# Altium footprint library SIP32510DT-T1-GE3.PcbLib: 3 footprints
Each footprint in its own frame and in the unit in brackets; x right, y up, seen from the top. Pads: shape width x height; smd on the part's side, far side on the other; paste and mask are expansions set on the pad; w line width, h text height; cw(c..) or ccw(c..) is an arc to the next point about the centre after c.
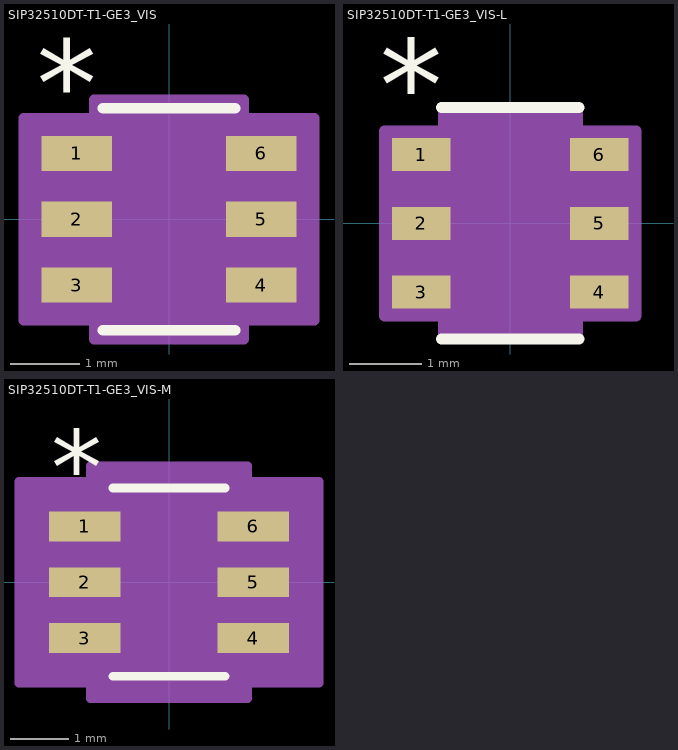
[diagram p0: the footprints below, top view; thin cyan lines are the x and y axes]

## SIP32510DT-T1-GE3_VIS [mil]
pads (6):
  rect 40x20 smd paste+0 mask+0: 1(-52.5,37.4) 2(-52.5,0) 3(-52.5,-37.4) 4(52.5,-37.4) 5(52.5,0) 6(52.5,37.4)
Top Overlay:
  lines w6: -37.5,-63 37.5,-63 ; -37.5,63 37.5,63
  text "*" at -75,52.4 h50
Mechanical 13:
  lines w0: -12,58 ccw(c0,58) 12,58
  lines w1: -58.5,-46.4 -58.5,-28.4 -32.5,-28.4 -32.5,-46.4 -58.5,-46.4 ; -58.5,-9 -58.5,9 -32.5,9 -32.5,-9 -58.5,-9 ; -58.5,28.4 -58.5,46.4 -32.5,46.4 -32.5,28.4 -58.5,28.4 ; -32.5,-58 32.5,-58 32.5,58 -32.5,58 -32.5,-58 ; 32.5,-46.4 32.5,-28.4 58.5,-28.4 58.5,-46.4 32.5,-46.4 ; 32.5,-9 32.5,9 58.5,9 58.5,-9 32.5,-9 ; 32.5,28.4 32.5,46.4 58.5,46.4 58.5,28.4 32.5,28.4
  text "*" at -30,5 h50
Mechanical 15:
  region: -42.5,-57.4 -82.5,-57.4 -82.5,57.4 -42.5,57.4 -42.5,68 42.5,68 42.5,57.4 82.5,57.4 82.5,-57.4 42.5,-57.4 42.5,-68 -42.5,-68
  lines w6: -82.5,-57.4 -82.5,57.4 -42.5,57.4 -42.5,68 42.5,68 42.5,57.4 82.5,57.4 82.5,-57.4 42.5,-57.4 42.5,-68 -42.5,-68 -42.5,-57.4 -82.5,-57.4
3D body "SIP32510DT-T1-GE3_VIS.step": height 43.11, standoff 0, extent -58.5,-57.99 58.5,57.99

## SIP32510DT-T1-GE3_VIS-L [mil]
pads (6):
  rect 32x18 smd paste+0 mask+0: 1(-48.5,37.4) 2(-48.5,0) 3(-48.5,-37.4) 4(48.5,-37.4) 5(48.5,0) 6(48.5,37.4)
Top Overlay:
  lines w6: -37.5,-63 37.5,-63 ; -37.5,63 37.5,63
  text "*" at -71,50.4 h50
Mechanical 13:
  lines w0: -12,58 ccw(c0,58) 12,58
  lines w1: -58.5,-46.4 -58.5,-28.4 -32.5,-28.4 -32.5,-46.4 -58.5,-46.4 ; -58.5,-9 -58.5,9 -32.5,9 -32.5,-9 -58.5,-9 ; -58.5,28.4 -58.5,46.4 -32.5,46.4 -32.5,28.4 -58.5,28.4 ; -32.5,-58 32.5,-58 32.5,58 -32.5,58 -32.5,-58 ; 32.5,-46.4 32.5,-28.4 58.5,-28.4 58.5,-46.4 32.5,-46.4 ; 32.5,-9 32.5,9 58.5,9 58.5,-9 32.5,-9 ; 32.5,28.4 32.5,46.4 58.5,46.4 58.5,28.4 32.5,28.4
  text "*" at -30,5 h50
Mechanical 15:
  region: -36.5,-50.4 -68.5,-50.4 -68.5,50.4 -36.5,50.4 -36.5,62 36.5,62 36.5,50.4 68.5,50.4 68.5,-50.4 36.5,-50.4 36.5,-62 -36.5,-62
  lines w6: -68.5,-50.4 -68.5,50.4 -36.5,50.4 -36.5,62 36.5,62 36.5,50.4 68.5,50.4 68.5,-50.4 36.5,-50.4 36.5,-62 -36.5,-62 -36.5,-50.4 -68.5,-50.4
3D body "SIP32510DT-T1-GE3_VIS.step": height 43.11, standoff 0, extent -58.5,-57.99 58.5,57.99

## SIP32510DT-T1-GE3_VIS-M [mil]
pads (6):
  rect 48x20 smd paste+0 mask+0: 1(-56.5,37.4) 2(-56.5,0) 3(-56.5,-37.4) 4(56.5,-37.4) 5(56.5,0) 6(56.5,37.4)
Top Overlay:
  lines w6: -37.5,-63 37.5,-63 ; -37.5,63 37.5,63
  text "*" at -79,52.4 h50
Mechanical 13:
  lines w0: -12,58 ccw(c0,58) 12,58
  lines w1: -58.5,-46.4 -58.5,-28.4 -32.5,-28.4 -32.5,-46.4 -58.5,-46.4 ; -58.5,-9 -58.5,9 -32.5,9 -32.5,-9 -58.5,-9 ; -58.5,28.4 -58.5,46.4 -32.5,46.4 -32.5,28.4 -58.5,28.4 ; -32.5,-58 32.5,-58 32.5,58 -32.5,58 -32.5,-58 ; 32.5,-46.4 32.5,-28.4 58.5,-28.4 58.5,-46.4 32.5,-46.4 ; 32.5,-9 32.5,9 58.5,9 58.5,-9 32.5,-9 ; 32.5,28.4 32.5,46.4 58.5,46.4 58.5,28.4 32.5,28.4
  text "*" at -30,5 h50
Mechanical 15:
  region: -52.5,-67.4 -100.5,-67.4 -100.5,67.4 -52.5,67.4 -52.5,78 52.5,78 52.5,67.4 100.5,67.4 100.5,-67.4 52.5,-67.4 52.5,-78 -52.5,-78
  lines w6: -100.5,-67.4 -100.5,67.4 -52.5,67.4 -52.5,78 52.5,78 52.5,67.4 100.5,67.4 100.5,-67.4 52.5,-67.4 52.5,-78 -52.5,-78 -52.5,-67.4 -100.5,-67.4
3D body "SIP32510DT-T1-GE3_VIS.step": height 43.11, standoff 0, extent -58.5,-57.99 58.5,57.99